# Altium footprint library baseboard.PcbLib: 17 footprints (part 1 of 2)
Each footprint in its own frame and in the unit in brackets; x right, y up, seen from the top. Pads: shape width x height; smd on the part's side, far side on the other; paste and mask are expansions set on the pad; w line width, h text height; cw(c..) or ccw(c..) is an arc to the next point about the centre after c.
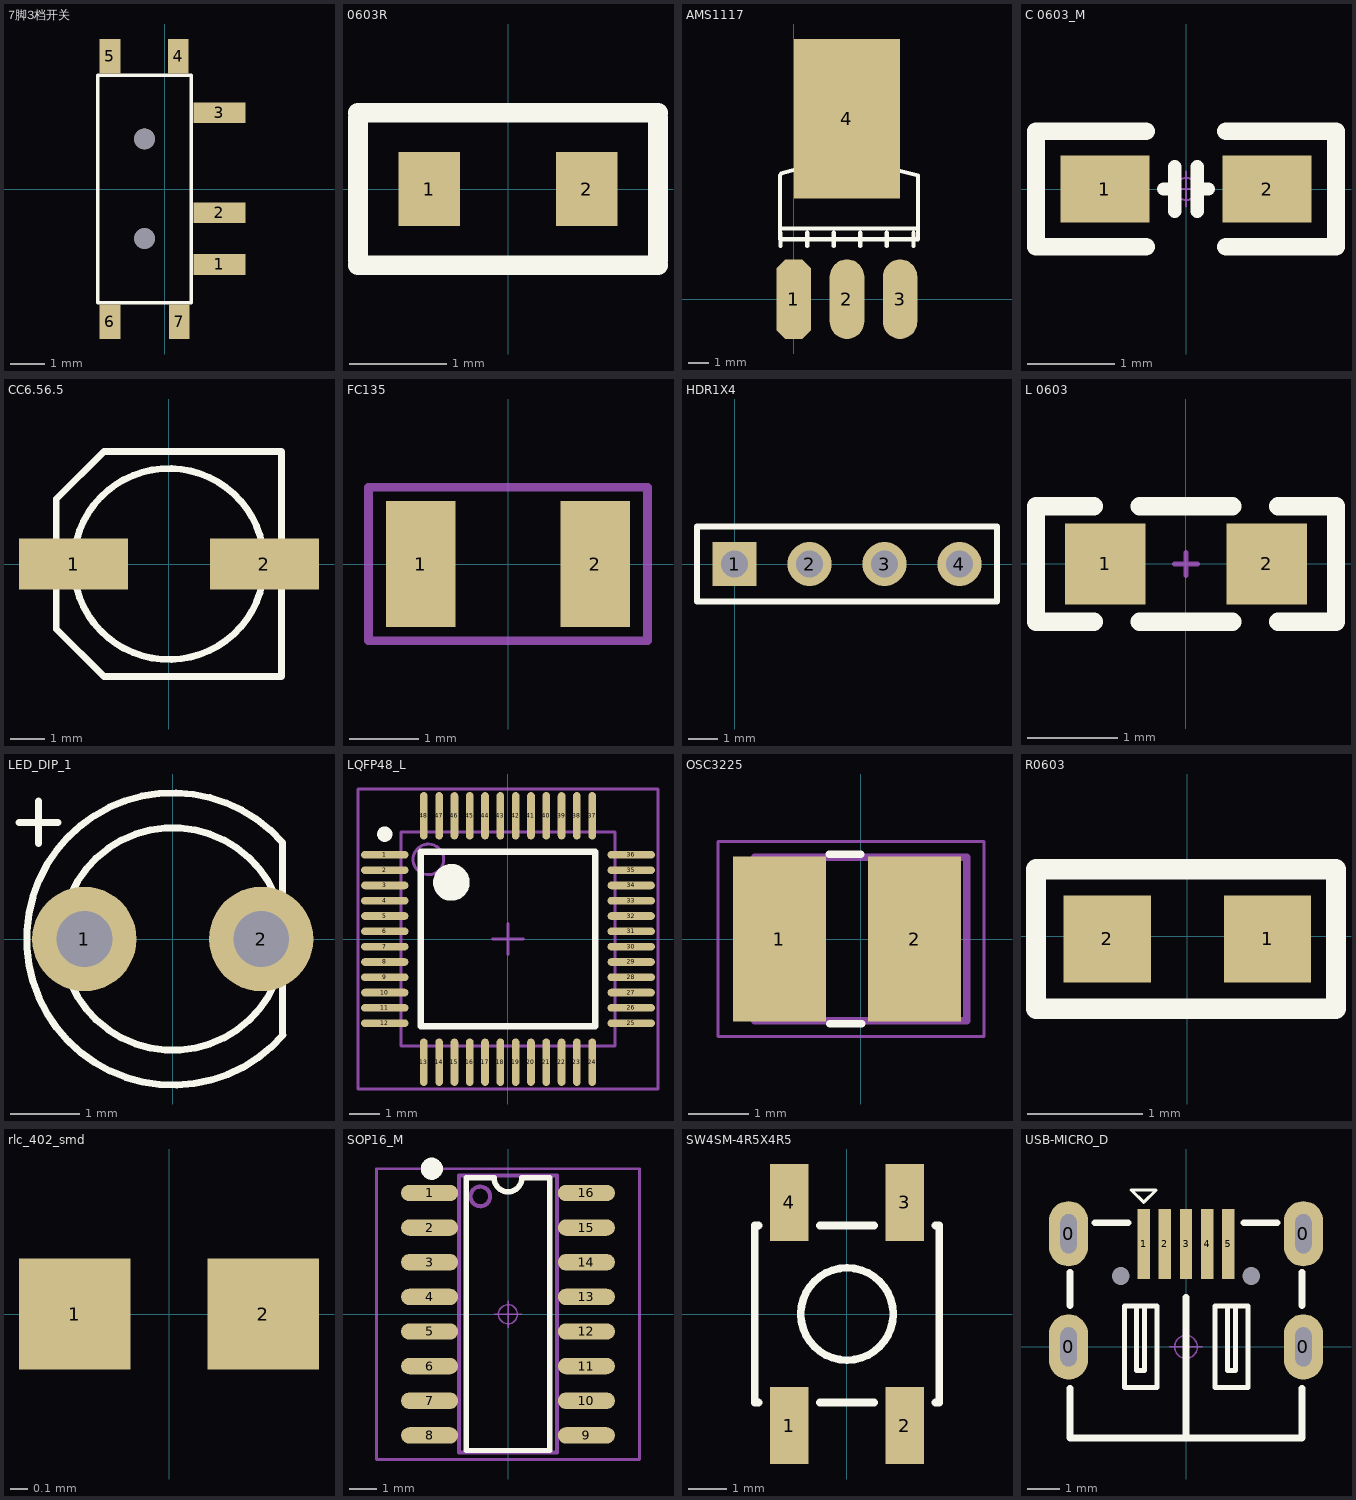
[diagram p0: the footprints below, top view; thin cyan lines are the x and y axes]

## 7脚3档开关 [mm]
height 0.55
pads (9):
  rect 1.5x0.6 smd: 1(1.587,-2.187) 2(1.587,-0.687) 3(1.587,2.213)
  rect 0.6x1 smd: 4(0.394,3.848) 5(-1.587,3.848) 6(-1.587,-3.848) 7(0.419,-3.848)
  round 0.6 hole 0.6: ""(-0.584,-1.437) ""(-0.584,1.45)
Top Overlay:
  lines w0.1: -1.943,-3.302 -1.943,3.302 0.775,3.302 0.775,-3.302 -1.943,-3.302

## 0603R [mil]
pads (2):
  rect 25x30 smd: 1(-32,0) 2(32,0)
Top Overlay:
  lines w8: -61,-31 13,-31 61,-31 ; -61,-29 -61,29 ; -61,31 13,31 61,31 ; 61,-29 61,29
3D body "R0603.STEP": height 17.72, standoff 0, extent -32.49,-15.74 30.5,15.75

## AMS1117 [mil]
pads (4):
  oct 65x150 smd: 1(0.03,-0.06)
  oval 65x150 smd: 2(100.03,-0.06) 3(200.03,-0.06)
  rect 200x300 smd: 4(100.03,339.94)
Top Overlay:
  lines w7.87: -25.97,232.94 -25.97,132.94 ; -24.97,99.94 -24.97,124.94 ; -24.3,236.27 34.03,252.94 74.03,292.94 134.03,292.94 154.03,252.94 234.03,232.94 234.03,112.94 ; 25.03,99.94 25.03,124.94 ; 75.03,99.94 75.03,124.94 ; 125.03,99.94 125.03,124.94 ; 175.03,99.94 175.03,124.94 ; 225.03,99.94 225.03,124.94 ; -25.97,132.94 234.03,132.94 234.03,112.94 ; -25.97,132.94 -25.97,112.94 234.03,112.94

## C 0603_M [mil] "无极性贴片电容"
pads (2):
  rect 40x30 smd: 1(-36.5,0) 2(36.5,0)
Top Overlay:
  lines w6: -10,0 -5,0 ; -5,-10 -5,10 ; 5,-10 5,10 ; 5,0 10,0
  lines w8: -18,-26 -67.5,-26 -67.5,26 -18,26 ; 18,-26 67.5,-26 67.5,26 18,26
Mechanical 15:
  circle w1: c0,0 r5
  lines w1: -7.87,0 7.87,0 ; 0,-7.87 0,7.87
3D body "C 0603.STEP": height 31.89, standoff -0.39, extent -31.5,-16.14 31.5,16.14

## CC6.56.5 [mm]
pads (2):
  rect 3.2x1.5 smd: 1(-2.794,0) 2(2.8,0)
Top Overlay:
  circle w0.2: c0,0 r2.8
  lines w0.2: -3.302,-1.905 -1.905,-3.302 3.302,-3.302 3.302,3.302 -1.905,3.302 -3.302,1.905 -3.302,-1.905

## FC135 [mm]
pads (2):
  rect 1x1.8 smd: 1(-1.25,0) 2(1.25,0)
Mechanical 16:
  lines w0.127: -2,-1.1 2,-1.1 2,1.1 -2,1.1 -2,-1.1

## HDR1X4 [mm] "Connector; Header; 4 Position"
height 4.4
pads (4):
  rect 1.5x1.5 hole 0.9: 1(0,0)
  round 1.5 hole 0.9: 2(2.54,0) 3(5.08,0) 4(7.62,0)
Top Overlay:
  lines w0.2: -1.27,-1.27 -1.27,1.27 8.89,1.27 8.89,-1.27 -1.27,-1.27

## L 0603 [mil] "小功率贴片电感"
pads (2):
  rect 35x35 smd: 1(-35,0) 2(35,0)
Top Overlay:
  lines w8: -40,-25 -65,-25 -65,25 -40,25 ; -20,-25 20,-25 ; -20,25 20,25 ; 40,-25 65,-25 65,25 40,25
Mechanical 15:
  lines w2: -5,0 5,0 ; 0,-5 0,0 0,5
3D body "0603.STEP": height 31.5, standoff -0.11, extent -31.5,-15.75 31.5,15.75

## LED_DIP_1 [mm]
pads (2):
  round 1.5 hole 0.8: 1(-1.27,0) 2(1.27,0)
Top Overlay:
  circle w0.1: c0,0 r1.6
  lines w0.1: -2.21,1.676 -1.651,1.676 ; -1.93,1.372 -1.93,1.981 ; 1.577,-1.373 1.577,1.387 ccw(c0,0) 1.583,-1.379

## LQFP48_L [mm] "Thin QFP, 48-Leads, Body 7x7mm, Pitch 0.5mm, IPC High Density"
height 1.6
pads (48):
  oval 1.55x0.25 smd: 1(-4.025,2.75) 2(-4.025,2.25) 3(-4.025,1.75) 4(-4.025,1.25) 5(-4.025,0.75) 6(-4.025,0.25) 7(-4.025,-0.25) 8(-4.025,-0.75) 9(-4.025,-1.25) 10(-4.025,-1.75) 11(-4.025,-2.25) 12(-4.025,-2.75) 25(4.025,-2.75) 26(4.025,-2.25) 27(4.025,-1.75) 28(4.025,-1.25) 29(4.025,-0.75) 30(4.025,-0.25) 31(4.025,0.25) 32(4.025,0.75) 33(4.025,1.25) 34(4.025,1.75) 35(4.025,2.25) 36(4.025,2.75)
  oval 0.25x1.55 smd: 13(-2.75,-4.025) 14(-2.25,-4.025) 15(-1.75,-4.025) 16(-1.25,-4.025) 17(-0.75,-4.025) 18(-0.25,-4.025) 19(0.25,-4.025) 20(0.75,-4.025) 21(1.25,-4.025) 22(1.75,-4.025) 23(2.25,-4.025) 24(2.75,-4.025) 37(2.75,4.025) 38(2.25,4.025) 39(1.75,4.025) 40(1.25,4.025) 41(0.75,4.025) 42(0.25,4.025) 43(-0.25,4.025) 44(-0.75,4.025) 45(-1.25,4.025) 46(-1.75,4.025) 47(-2.25,4.025) 48(-2.75,4.025)
Top Overlay:
  circle w0.6: c-1.85,1.85 r0.3
  circle w0.25: c-4.025,3.425 r0.125
  lines w0.2: -2.85,-2.85 2.85,-2.85 2.85,2.85 -2.85,2.85 -2.85,-2.85
Mechanical 13:
  circle w0.1: c-2.6,2.6 r0.5
  lines w0.1: -3.5,-3.5 3.5,-3.5 3.5,3.5 -3.5,3.5 -3.5,-3.5
Mechanical 15:
  lines w0.1: -0.5,0 0.5,0 ; 0,-0.5 0,0.5 ; -4.9,-4.9 4.9,-4.9 4.9,4.9 -4.9,4.9 -4.9,-4.9
3D body: height 1.6, standoff 0, extent -3.5,-3.5 3.5,3.5

## OSC3225 [mm]
pads (2):
  rect 1.53x2.72 smd: 1(-1.341,0) 2(0.889,0)
Top Overlay:
  lines w0.127: -0.52,1.397 0,1.397 ; -0.508,-1.397 0.012,-1.397
Mechanical 13:
  lines w0.127: -1.75,-1.35 1.75,-1.35 1.75,1.35 -1.75,1.35 -1.75,-1.35
Mechanical 15:
  lines w0.05: -2.355,-1.608 2.032,-1.608 2.032,1.608 -2.355,1.608 -2.355,-1.608
3D body "step_temp.STEP": height 2.7, standoff 0, extent -1.727,-1.27 1.473,1.23

## R0603 [mil]
height 21.65
pads (2):
  rect 30x30 smd: 1(27.5,-1) 2(-27.5,-1)
Top Overlay:
  lines w7: -52,-25 51,-25 51,23 -52,23 -52,-25

## rlc_402_smd [mm] "Chip SMD component 402; Body 1.0 x 0.5 mm (LxW typ)"
height 0.8
pads (2):
  rect 0.65x0.65 smd mask+0.05: 1(-0.55,0) 2(0.55,0)
3D body: height 0.8, standoff 0.2, extent -0.875,-0.325 0.875,0.325

## SOP16_M [mm] "10.3*6.2*1.8mm（长宽高）"
height 1.75
pads (16):
  oval 2.1x0.6 smd: 1(-2.875,4.445) 2(-2.875,3.175) 3(-2.875,1.905) 4(-2.875,0.635) 5(-2.875,-0.635) 6(-2.875,-1.905) 7(-2.875,-3.175) 8(-2.875,-4.445) 9(2.875,-4.445) 10(2.875,-3.175) 11(2.875,-1.905) 12(2.875,-0.635) 13(2.875,0.635) 14(2.875,1.905) 15(2.875,3.175) 16(2.875,4.445)
Top Overlay:
  circle w0.5: c-2.794,5.334 r0.155
  lines w0.2: -1.524,5 -1.524,-5 1.524,-5 1.524,5
  lines w0.203: -1.524,5 -0.508,5 ccw(c0,5) 0,4.492 ccw(c0,5) 0.508,5 1.524,5
Mechanical 13:
  circle w0.15: c-1.016,4.318 r0.359
  lines w0.15: -1.8,-5.08 -1.8,5.08 1.8,5.08 1.8,-5.08 -1.8,-5.08
Mechanical 15:
  circle w0.05: c0,0 r0.35
  lines w0.05: -0.5,0 0.5,0 ; 0,-0.5 0,0.5
  lines w0.1: -4.826,-5.334 4.826,-5.334 4.826,5.334 -4.826,5.334 -4.826,-5.334
3D body "SOP16.STEP": height 1.9, standoff 0, extent -3.003,-5 3.003,5

## SW4SM-4R5X4R5 [mm]
pads (4):
  rect 1x2 smd: 1(-1.5,-2.9) 2(1.5,-2.9) 3(1.5,2.9) 4(-1.5,2.9)
Top Overlay:
  circle w0.2: c0,0 r1.2
  lines w0.2: -2.3,-2.3 -2.4,-2.3 -2.4,2.3 -2.3,2.3 ; -0.7,-2.3 0.7,-2.3 ; -0.7,2.3 0.7,2.3 ; 2.3,-2.3 2.4,-2.3 2.4,2.3 2.3,2.3

## USB-MICRO_D [mm] "micro型USB ，6.7*7.5*2.5mm"
pads (11):
  oval 1.2x2 hole 0.5 slot 1.2 at 90 deg: 0(-3.6,0) 0(-3.6,3.47) 0(3.6,0) 0(3.6,3.47)
  round 0 hole 0.55 unplated: 0(-2,2.17) 0(2,2.17)
  rect 0.381x2.15 smd: 1(-1.3,3.16) 2(-0.65,3.16) 3(0,3.16) 4(0.65,3.16) 5(1.3,3.16)
Top Overlay:
  lines w0.1: -1.681,4.811 -0.919,4.811 -1.3,4.43 -1.681,4.811
  lines w0.152: -1.524,1.257 -1.524,-0.728 -1.321,-0.728 -1.27,-0.728 -1.27,1.257 ; 1.27,1.257 1.27,-0.728 1.524,-0.728 1.524,1.257 ; -1.885,-1.243 -0.885,-1.243 -0.885,1.257 -1.885,1.257 -1.885,-1.243 ; 0.896,-1.243 0.896,1.257 1.896,1.257 1.896,-1.243 0.896,-1.243
  lines w0.203: -3.556,-1.27 -3.556,-2.794 3.556,-2.794 3.556,-1.27 ; -3.556,1.27 -3.556,2.286 ; -2.794,3.81 -1.778,3.81 ; 0,-2.75 0,1.524 ; 1.778,3.81 2.794,3.81 ; 3.556,1.27 3.556,2.286
Mechanical 15:
  circle w0.05: c0,0 r0.35
  lines w0.05: -0.5,0 0.5,0 ; 0,-0.5 0,0.5
3D body "USB micro_D.STEP": height 2.79, standoff -0.95, extent -3.985,-2.75 3.985,3.95